# Altium schematic symbol library Switcher.SchLib: 8 symbols
Pins are listed as number, name and electrical type; pins without a type are passive.

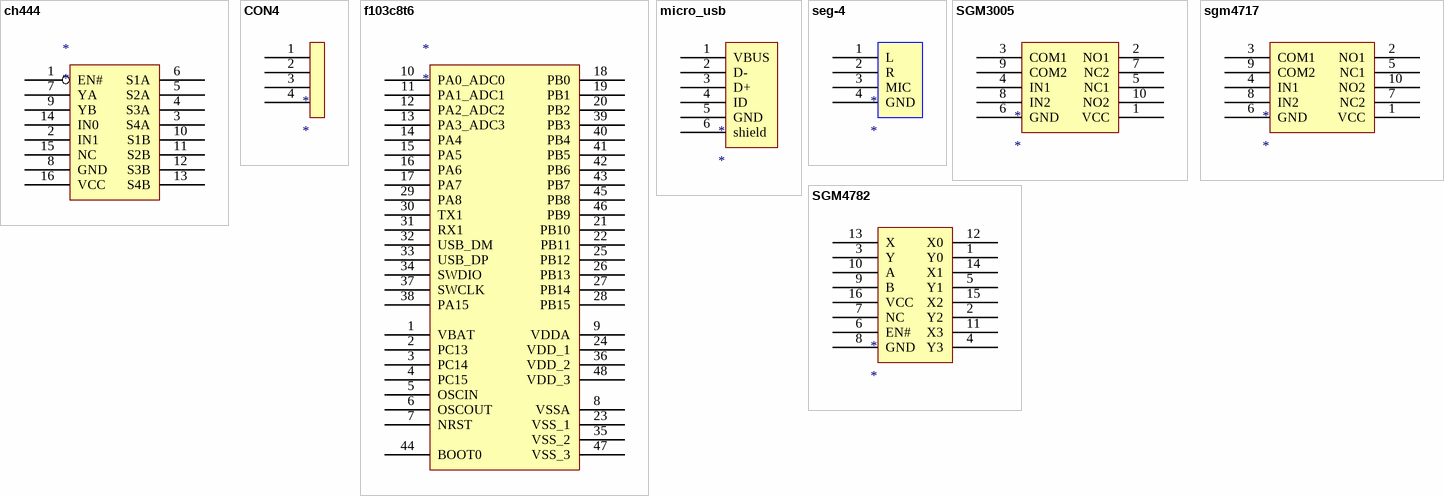
[diagram p0: symbols ch444 to SGM4782]

## ch444
designator *
pins: 1 EN#, 2 IN1, 3 S4A, 4 S3A, 5 S2A, 6 S1A, 7 YA, 8 GND, 9 YB, 10 S1B, 11 S2B, 12 S3B, 13 S4B, 14 IN0, 15 NC, 16 VCC

## CON4
designator *
pins: 1, 2, 3, 4

## f103c8t6
designator *
pins: 1 VBAT, 2 PC13, 3 PC14, 4 PC15, 5 OSCIN, 6 OSCOUT, 7 NRST, 8 VSSA, 9 VDDA, 10 PA0_ADC0, 11 PA1_ADC1, 12 PA2_ADC2, 13 PA3_ADC3, 14 PA4, 15 PA5, 16 PA6, 17 PA7, 18 PB0, 19 PB1, 20 PB2, 21 PB10, 22 PB11, 23 VSS_1, 24 VDD_1, 25 PB12, 26 PB13, 27 PB14, 28 PB15, 29 PA8, 30 TX1, 31 RX1, 32 USB_DM, 33 USB_DP, 34 SWDIO, 35 VSS_2, 36 VDD_2, 37 SWCLK, 38 PA15, 39 PB3, 40 PB4, 41 PB5, 42 PB6, 43 PB7, 44 BOOT0, 45 PB8, 46 PB9, 47 VSS_3, 48 VDD_3

## micro_usb
designator *
pins: 1 VBUS, 2 D-, 3 D+, 4 ID, 5 GND, 6 shield

## seg-4
designator *
pins: 1 L, 2 R, 3 MIC, 4 GND

## SGM3005
designator *
pins: 1 VCC, 2 NO1, 3 COM1, 4 IN1, 5 NC1, 6 GND, 7 NC2, 8 IN2, 9 COM2, 10 NO2

## sgm4717
designator *
pins: 1 VCC, 2 NO1, 3 COM1, 4 IN1, 5 NC1, 6 GND, 7 NC2, 8 IN2, 9 COM2, 10 NO2

## SGM4782
designator *
pins: 1 Y0, 2 Y2, 3 Y, 4 Y3, 5 Y1, 6 EN#, 7 NC, 8 GND, 9 B, 10 A, 11 X3, 12 X0, 13 X, 14 X1, 15 X2, 16 VCC